# Altium schematic symbol library ic_interfaces_bridge.SchLib: 4 symbols
Pins are listed as number, name and electrical type; pins without a type are passive.

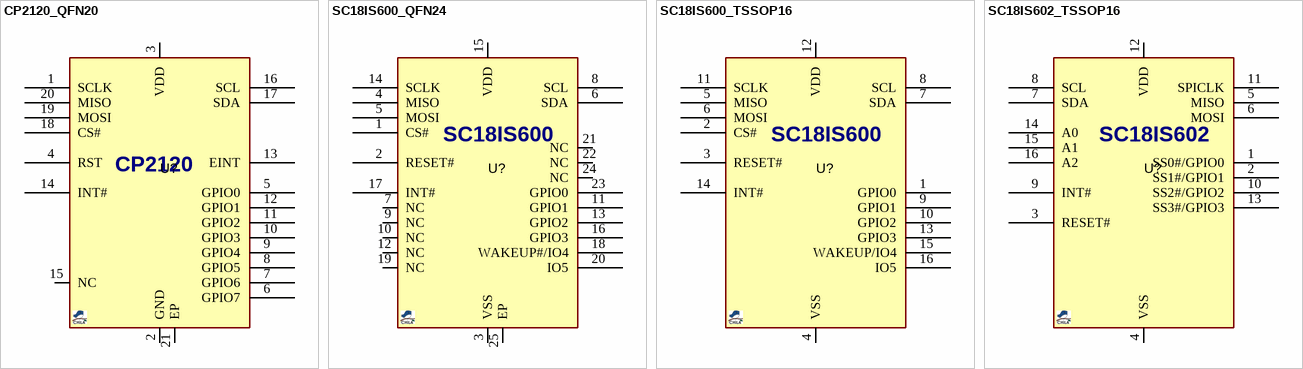
[diagram p0: symbols CP2120_QFN20 to SC18IS602_TSSOP16]

## CP2120_QFN20
designator U?, comment CP2120  (value not drawn)
IC, Interface bridge, SPI to I2C; PARAM: 6.4mA, 1Mbps, -55~125oC; PARAM2: 2.7~3.6V, 5V io tolerant; MANF_P#: CP2120-GM; MANF: Silicon Labs; VALUE: CP2120; PRICE: 2$
footprint QFN50_20T (QFN, 20, 4X4mm, 0.5mm)
pins: 1 SCLK, 2 GND, 3 VDD, 4 RST, 5 GPIO0, 6 GPIO7, 7 GPIO6, 8 GPIO5, 9 GPIO4, 10 GPIO3, 11 GPIO2, 12 GPIO1, 13 EINT, 14 INT#, 15 NC, 16 SCL, 17 SDA, 18 CS#, 19 MOSI, 20 MISO, 21 EP

## SC18IS600_QFN24
designator U?, comment SC18IS600  (value not drawn)
IC, Interface bridge, SPI to I2C; PARAM: 1.2Mbps SPI, 400Kbps I2C, -40~85oC; PARAM2: 2.4~3.6V, 5V io tolerant; MANF_P#: SC18IS600IBS; MANF: NXP; VALUE: SC18IS600; PRICE: 2$
footprint QFN50_24T (MO-220 (JEDEC), RGE S-PQFP-N24 (TI), 4X4mm, 0.5mm, HVQFN24)
pins: 1 CS#, 2 RESET#, 3 VSS, 4 MISO, 5 MOSI, 6 SDA, 7 NC, 8 SCL, 9 NC, 10 NC, 11 GPIO1, 12 NC, 13 GPIO2, 14 SCLK, 15 VDD, 16 GPIO3, 17 INT#, 18 WAKEUP#/IO4, 19 NC, 20 IO5, 21 NC, 22 NC, 23 GPIO0, 24 NC, 25 EP

## SC18IS600_TSSOP16
designator U?, comment SC18IS600  (value not drawn)
IC, Interface bridge, SPI to I2C; PARAM: 1.2Mbps SPI, 400Kbps I2C, -40~85oC; PARAM2: 2.4~3.6V, 5V io tolerant; MANF_P#: SC18IS600IPW; MANF: NXP; VALUE: SC18IS600; PRICE: 3$
footprint SOG65_16 (PW TSSOP (TI), MO-153-AB (JEDEC), 16Lead, pitch: 0.65mm, 5x4.4x1.2mm)
pins: 1 GPIO0, 2 CS#, 3 RESET#, 4 VSS, 5 MISO, 6 MOSI, 7 SDA, 8 SCL, 9 GPIO1, 10 GPIO2, 11 SCLK, 12 VDD, 13 GPIO3, 14 INT#, 15 WAKEUP/IO4, 16 IO5

## SC18IS602_TSSOP16
designator U?, comment SC18IS602  (value not drawn)
IC, Interface bridge, I2C to SPI; PARAM: 1.8Mbps SPI, 400Kbps I2C, -40~85oC; PARAM2: 2.4~3.6V, 5V io tolerant; MANF_P#: SC18IS602BIPW; MANF: NXP; VALUE: SC18IS602; PRICE: 2.7$
footprint SOG65_16 (PW TSSOP (TI), MO-153-AB (JEDEC), 16Lead, pitch: 0.65mm, 5x4.4x1.2mm)
pins: 1 SS0#/GPIO0, 2 SS1#/GPIO1, 3 RESET#, 4 VSS, 5 MISO, 6 MOSI, 7 SDA, 8 SCL, 9 INT#, 10 SS2#/GPIO2, 11 SPICLK, 12 VDD, 13 SS3#/GPIO3, 14 A0, 15 A1, 16 A2